# EAGLE library part AQM0802A (library AQM0802A)
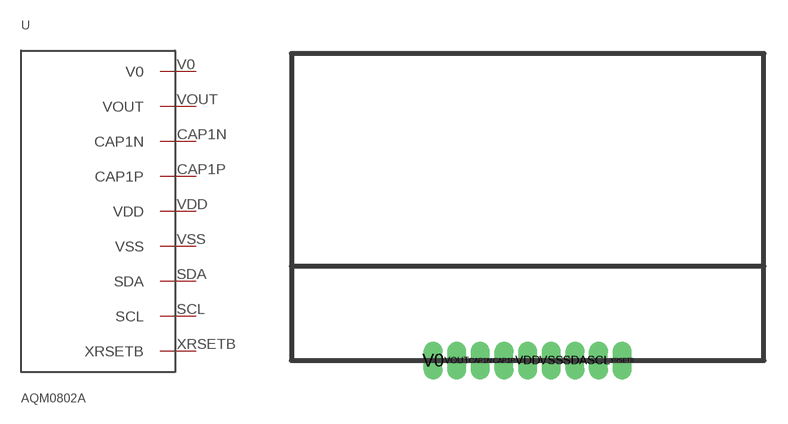
[diagram p0: symbol with the pads of AQM0802A; footprint AQM0802A]

Designator prefix -

## AQM0802A  [AQM0802A]
CAP1N  CAP1N
CAP1P  CAP1P
SCL  SCL
SDA  SDA
V0  V0
VDD  VDD
VOUT  VOUT
VSS  VSS
XRSETB  XRSETB

## Footprint AQM0802A (pad centres in mm)
drill 0.7 pad 1.016 long: CAP1N 12,0; CAP1P 13.5,0; SCL 19.5,0; SDA 18,0; V0 9,0; VDD 15,0; VOUT 10.5,0; VSS 16.5,0; XRSETB 21,0